# Altium schematic symbol library Hub.SchLib: 21 symbols
Pins are listed as number, name and electrical type; pins without a type are passive.

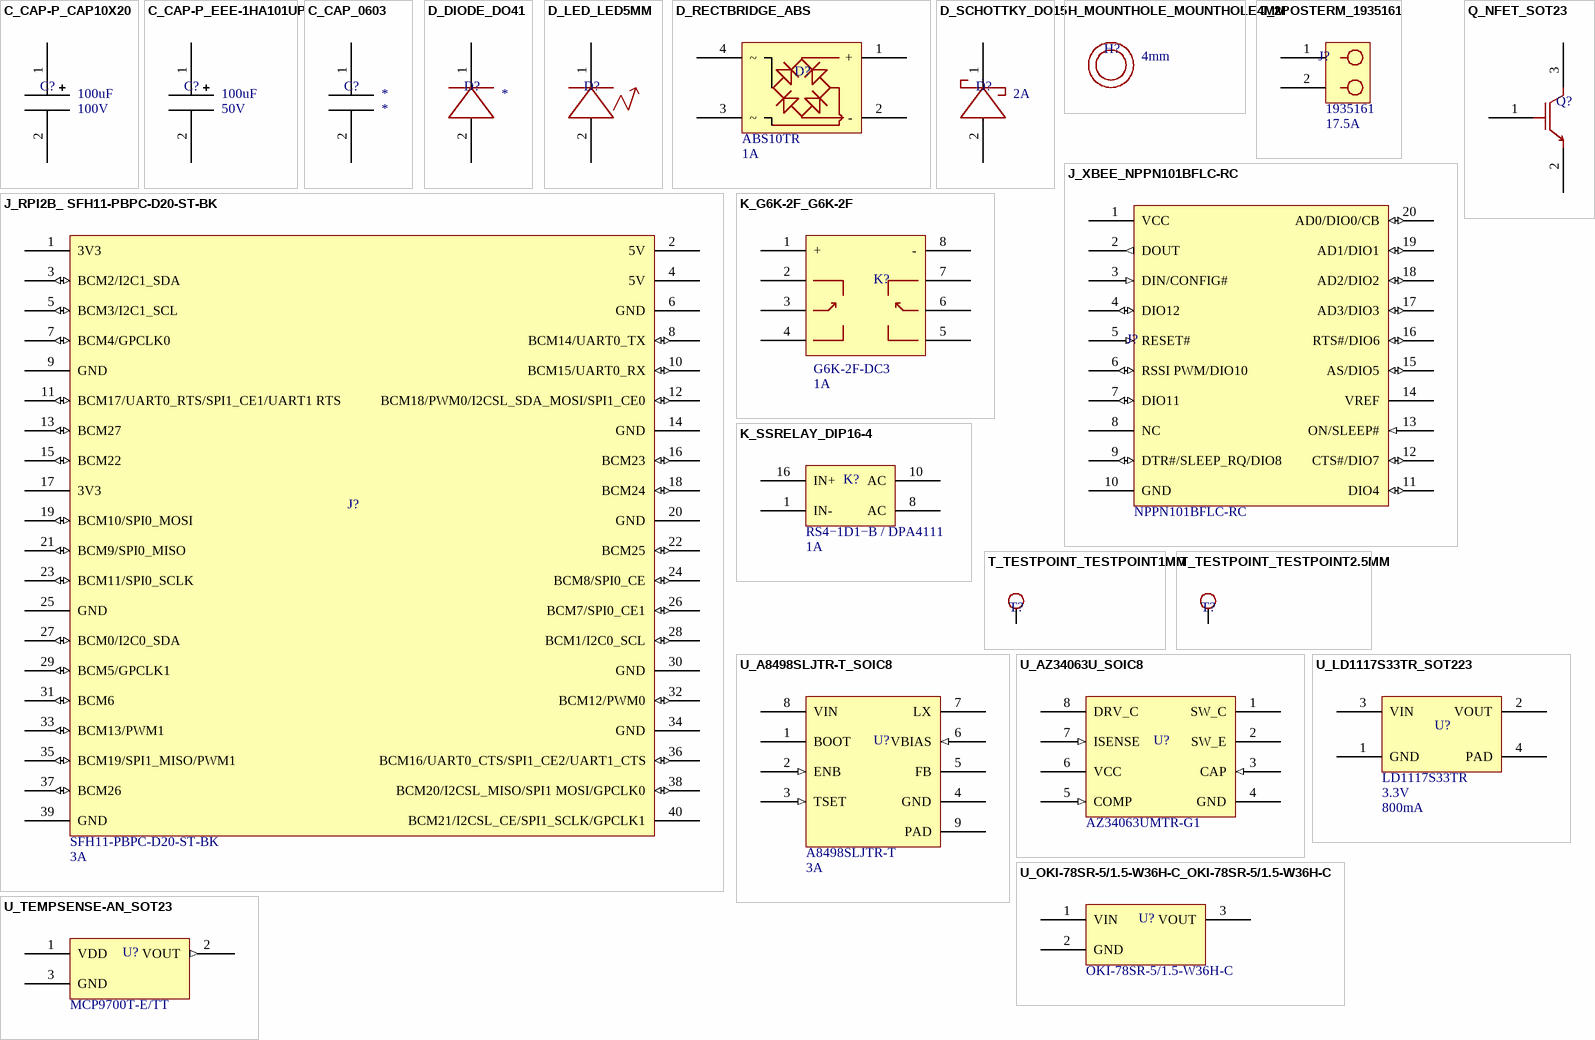
[diagram p0: symbols C_CAP-P_CAP10X20 to U_TEMPSENSE-AN_SOT23]

## C_CAP-P_CAP10X20
designator C?, comment value 100uF  Rating: 100V  (hidden comment: CAP)
PartNumber: UVR2A101MPD; Manufacturer: Nichicon
footprint CAP10X20
pins: 1, 2

## C_CAP-P_EEE-1HA101UP
designator C?, comment value 100uF  Rating: 50V  (hidden comment: CAP)
PartNumber: EEE-1HA101UP; Manufacturer: Panasonic Electronic Components
footprint EEE-1HA101UP
pins: 1, 2

## C_CAP_0603
designator C?
PartNumber: *; Manufacturer: *; Rating: *; Value: *
footprint 0603
pins: 1, 2

## D_DIODE_DO41
designator D?, comment DIODE  (value not drawn)
PartNumber: *; Manufacturer: *; Rating: *
footprint DO41
pins: 1, 2

## D_LED_LED5MM
designator D?
footprint LED5MM
pins: 1, 2

## D_RECTBRIDGE_ABS
designator D?  Rating: 1A  PartNumber: ABS10TR
Manufacturer: SMC Diode Solutions
footprint ABS
pins: 1 +, 2 -, 3 ~, 4 ~ (power)

## D_SCHOTTKY_DO15
designator D?, comment Rating: 2A  (hidden comment: DIODE)
PartNumber: SB240TA; Manufacturer: SMC Diode Solutions
footprint DO15
pins: 1, 2

## H_MOUNTHOLE_MOUNTHOLE4MM
designator H?  value 4mm  (hidden comment: *)
footprint MOUNTHOLE4MM

## J_2POSTERM_1935161
designator J?  PartNumber: 1935161  Rating: 17.5A
Manufacturer: Phoenix Contact
footprint 1935161
pins: 1, 2

## J_RPI2B_ SFH11-PBPC-D20-ST-BK
designator J?  Rating: 3A  PartNumber: SFH11-PBPC-D20-ST-BK  (hidden comment: *)
Manufacturer: Sullins Connector Solutions
footprint SFH11-PBPC-D20-ST-BK
pins: 1 3V3 (power), 2 5V (power), 3 BCM2/I2C1_SDA (io), 4 5V (power), 5 BCM3/I2C1_SCL (io), 6 GND (power), 7 BCM4/GPCLK0 (io), 8 BCM14/UART0_TX (io), 9 GND (power), 10 BCM15/UART0_RX (io), 11 BCM17/UART0_RTS/SPI1_CE1/UART1 RTS (io), 12 BCM18/PWM0/I2CSL_SDA_MOSI/SPI1_CE0 (io), 13 BCM27 (io), 14 GND (power), 15 BCM22 (io), 16 BCM23 (io), 17 3V3 (power), 18 BCM24 (io), 19 BCM10/SPI0_MOSI (io), 20 GND (power), 21 BCM9/SPI0_MISO (io), 22 BCM25 (io), 23 BCM11/SPI0_SCLK (io), 24 BCM8/SPI0_CE (io), 25 GND (power), 26 BCM7/SPI0_CE1 (io), 27 BCM0/I2C0_SDA (io), 28 BCM1/I2C0_SCL (io), 29 BCM5/GPCLK1 (io), 30 GND (power), 31 BCM6 (io), 32 BCM12/PWM0 (io), 33 BCM13/PWM1 (io), 34 GND (power), 35 BCM19/SPI1_MISO/PWM1 (io), 36 BCM16/UART0_CTS/SPI1_CE2/UART1_CTS (io), 37 BCM26 (io), 38 BCM20/I2CSL_MISO/SPI1 MOSI/GPCLK0 (io), 39 GND (power), 40 BCM21/I2CSL_CE/SPI1_SCLK/GPCLK1 (power)

## J_XBEE_NPPN101BFLC-RC
designator J?  PartNumber: NPPN101BFLC-RC  Rating: 1A
Manufacturer: Sullins Connector Solutions
footprint NPPN101BFLC-RC
pins: 1 VCC (power), 2 DOUT (out), 3 DIN/CONFIG# (in), 4 DIO12 (io), 5 RESET# (in), 6 RSSI PWM/DIO10 (io), 7 DIO11 (io), 8 NC, 9 DTR#/SLEEP_RQ/DIO8 (io), 10 GND (power), 11 DIO4 (io), 12 CTS#/DIO7 (io), 13 ON/SLEEP# (in), 14 VREF (power), 15 AS/DIO5 (io), 16 RTS#/DIO6 (io), 17 AD3/DIO3 (io), 18 AD2/DIO2 (io), 19 AD1/DIO1 (io), 20 AD0/DIO0/CB (io)

## K_G6K-2F_G6K-2F
designator K?  Rating: 1A  PartNumber: G6K-2F-DC3  (hidden comment: *)
Manufacturer: Omron
footprint G6K-2F
pins: 1 + (power), 2 S1_1 (power), 3 S1_2 (power), 4 S1_3 (power), 5 S2_3 (power), 6 S2_2 (power), 7 S2_1 (power), 8 - (power)

## K_SSRELAY_DIP16-4
designator K?  Rating: 1A  PartNumber: RS4−1D1−B / DPA4111  (hidden comment: *)
Manufacturer: NTE / Crydom
footprint DIP16-4
pins: 1 IN-, 8 AC, 10 AC, 16 IN+

## Q_NFET_SOT23
designator Q?  (value not drawn)
Manufacturer: On Semiconductor; PartNumber: BSS138; Rating: 220mA
footprint SOT23
pins: 1 G, 2 S, 3 D

## T_TESTPOINT_TESTPOINT1MM
designator T?, comment TESTPOINT  (value not drawn)
Value: 1mm
footprint TESTPOINT1MM
pins: 1

## T_TESTPOINT_TESTPOINT2.5MM
designator T?, comment TESTPOINT  (value not drawn)
Value: 2.54mm
footprint TESTPOINT2.5MM
pins: 1

## U_A8498SLJTR-T_SOIC8
designator U?  Rating: 3A  PartNumber: A8498SLJTR-T  (hidden comment: *)
Manufacturer: Allegro MicroSystems, LLC
footprint SOIC8-PAD
pins: 1 BOOT (power), 2 ENB (in), 3 TSET (in), 4 GND (power), 5 FB (power), 6 VBIAS (in), 7 LX (power), 8 VIN (power), 9 PAD (power)

## U_AZ34063U_SOIC8
designator U?  PartNumber: AZ34063UMTR-G1
Manufacturer: Diodes Incorporated; Rating: 1.5A
footprint SOIC8
pins: 1 SW_C (power), 2 SW_E (power), 3 CAP (in), 4 GND (power), 5 COMP (in), 6 VCC (power), 7 ISENSE (in), 8 DRV_C (power)

## U_LD1117S33TR_SOT223
designator U?  value 3.3V  Rating: 800mA  PartNumber: LD1117S33TR
footprint SOT223
pins: 1 GND, 2 VOUT, 3 VIN (power), 4 PAD

## U_OKI-78SR-5/1.5-W36H-C_OKI-78SR-5/1.5-W36H-C
designator U?  PartNumber: OKI-78SR-5/1.5-W36H-C
Manufacturer: Murata Power Solutions Inc.; Rating: 1.5A
footprint OKI-78SR-5/1.5-W36H-C
pins: 1 VIN (power), 2 GND (power), 3 VOUT (power)

## U_TEMPSENSE-AN_SOT23
designator U?  PartNumber: MCP9700T-E/TT  (hidden comment: *)
Manufacturer: Microchip
footprint SOT23
pins: 1 VDD (power), 2 VOUT (out), 3 GND (power)